# EAGLE library part SRBM130700 (library switches)
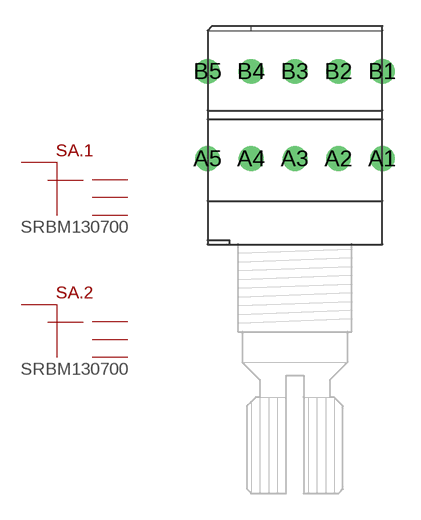
[diagram p1: symbol with the pads of SR10010F; footprint SR10010F]

Designator prefix SA; gates .1=SWITCH-3POS .2=SWITCH-3POS

## SRBM130700 (MOUSER: 688-SRBM130700)  [SR10010F]
A1  .1:CM  pas
A2  .1:1  pas
A3  .1:2  pas
A4  .1:3  pas
B1  .2:1  pas
B2  .2:2  pas
B3  .2:3  pas
B5  .2:CM  pas

## Footprint SR10010F (pad centres in mm)
ALPS RK097 Single Element, Knurled / Slotted Shaft
drill 0.9: A1 5,5; A2 2.5,5; A3 0,5; A4 -2.5,5; A5 -5,5; B1 5,10; B2 2.5,10; B3 0,10; B4 -2.5,10; B5 -5,10